# Altium schematic symbol library miscellaneous.SchLib: 26 symbols
Pins are listed as number, name and electrical type; pins without a type are passive.

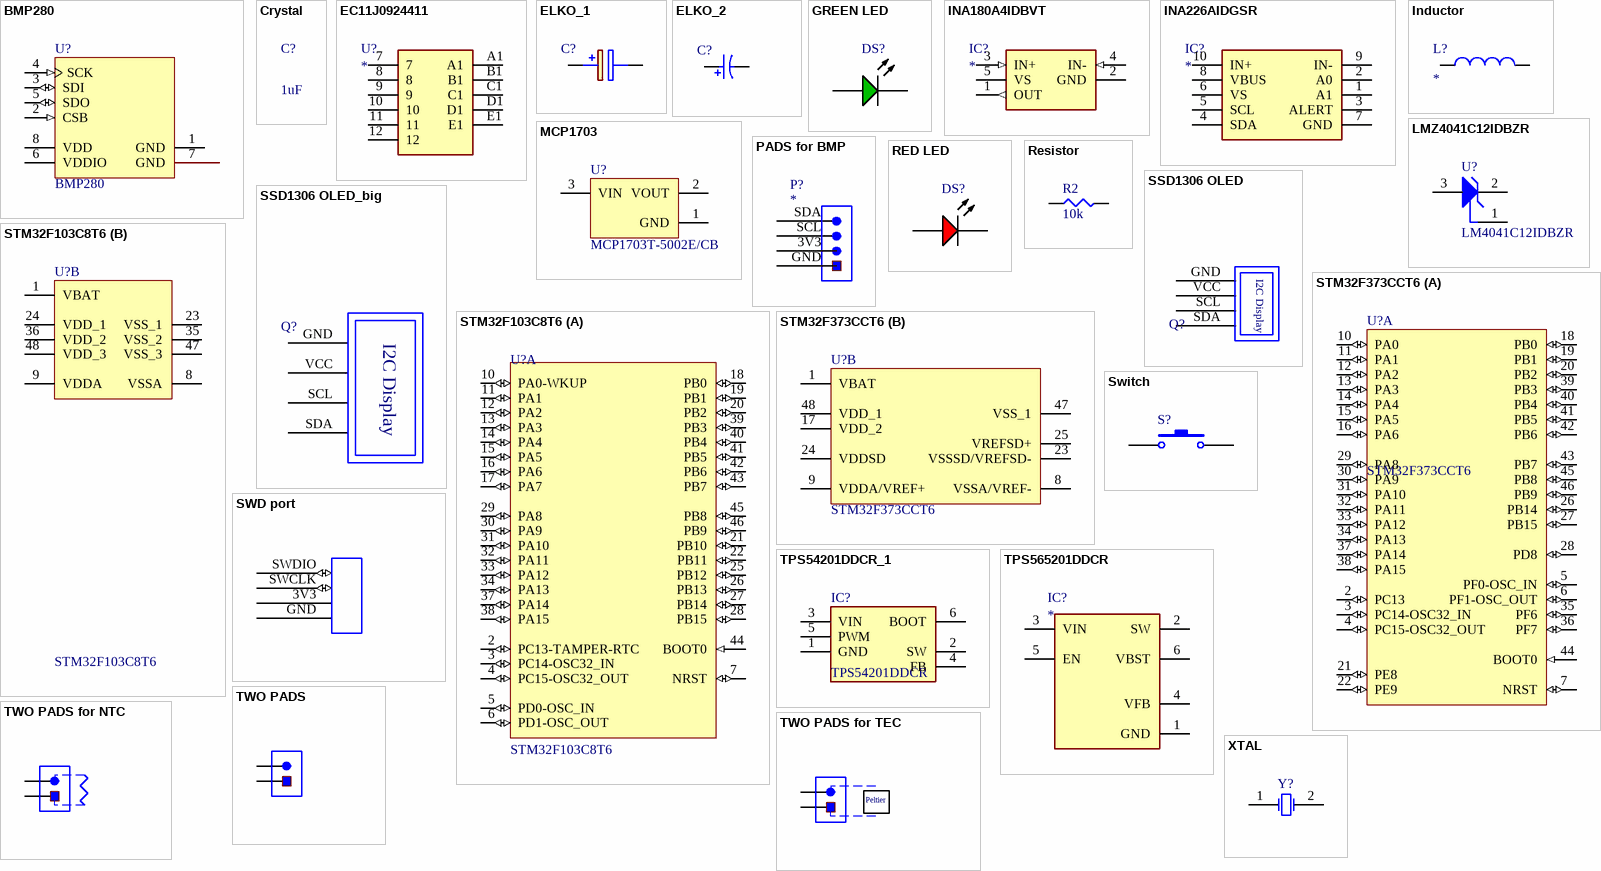
[diagram p0: symbols BMP280 to XTAL]

## BMP280
designator U?
Digital Pressure Sensor, 1.71 to 3.6 V, -40 to 85 degC, 8-Pin LGA, RoHS, Tape and Reel; Manufacturer: Bosch Sensortec; Manufacturer name: Bosch; Manufacturer URL: http://www.bosch-sensortec.com; Datasheet URL: http://datasheet.octopart.com/BMP280-Bosch-datasheet-41546027.pdf; Datasheet Version: Rev. 1.14, 05/2015; Part Number: BMP280; Manufacturer: Bosch; Manufacturer Part Number: BMP280
footprint BOSC-LGA-8_V (LGA, 8-Leads, Body 2.5x2mm, Pitch 0.65mm)
pins: 1 GND (power) "Ground", 2 CSB (in) "Chip select", 3 SDI (io) "Serial data input", 4 SCK (in) "Serial clock input", 5 SDO (io) "Serial data output", 6 VDDIO (power) "Digital interface supply", 7 GND (power) "Ground", 8 VDD (power) "Analog supply"

## Crystal
designator C?, comment 1uF
Value: 1uF
footprint CAPC3216X15L_1206_S (Chip Capacitor, 2-Leads, Body 3,20x1,60mm, IPC High Density)
footprint CAPC3225X15L (Chip Capacitor, 1210, 2-Leads, Body 3,20x2,50mm, IPC High Density)
footprint SMD-0805-C
footprint CAPC450X320X110L60N (Capacitor, Chip; 4.50 mm L X 3.20 mm W X 1.10 mm H body)
footprint CAPC160X80X90L35N (Capacitor, Chip; 1.60 mm L X 0.80 mm W X 0.90 mm H body)
footprint CAPC200X125X110L50N (Capacitor, Chip; 2.00 mm L X 1.25 mm W X 1.10 mm H body)

## EC11J0924411
designator U?
Rotary encoder; Manufacturer_Name: ALPS; Manufacturer_Part_Number: EC11J0924411; Datasheet Link: https://componentsearchengine.com//EC11J0924411.pdf; Height: 24.5mm; Mouser2 Part Number: 688-EC11J0924411; Mouser2 Price/Stock: https://www.mouser.com/Search/Refine.aspx?Keyword=688-EC11J0924411
footprint EC11J0924411
pins: 7, 8, 9, 10, 11, 12, A1, B1, C1, D1, E1

## ELKO_1
designator C?
polarised cap
footprint CAPAE630X610D720L260X70N (Capacitor, Aluminum Electrolytic; 6.30 mm L X 6.30 mm W X 6.10 mm H body)
pins: 1 +, 2 -

## ELKO_2
designator C?
polarised cap
footprint CAPAE630X610D720L260X70N (Capacitor, Aluminum Electrolytic; 6.30 mm L X 6.30 mm W X 6.10 mm H body)
pins: 1, 2

## GREEN LED
designator DS?  (value not drawn)
Green LED; Part Number: *
footprint LEDC160X80X60L30N (LED, Chip; 0603; 1.60 mm L X 0.80 mm W X 0.60 mm H body, green)
pins: A, C

## INA180A4IDBVT
designator IC?
Integrated Circuit; Manufacturer_Name: Texas Instruments; Manufacturer_Part_Number: INA180A4IDBVT; Datasheet Link: http://www.ti.com/lit/gpn/ina180; Height: 1.45mm; Mouser2 Part Number: 595-INA180A4IDBVT; Mouser2 Price/Stock: https://www.mouser.com/Search/Refine.aspx?Keyword=595-INA180A4IDBVT
footprint SOT23-5P95_290X145L45X40N (Small Outline Transistor (SOT23), 0.95 mm pitch; 5 pin, 2.80 mm L X 1.60 mm W X 1.45 mm H body)
pins: 1 OUT (out), 2 GND (power), 3 IN+ (in), 4 IN- (in), 5 VS (power)

## INA226AIDGSR
designator IC?
Integrated Circuit; Manufacturer_Name: Texas Instruments; Manufacturer_Part_Number: INA226AIDGSR; Datasheet Link: https://componentsearchengine.com/Datasheets/1/INA226AIDGSR.pdf; Height: 1.1mm; Mouser2 Part Number: 595-INA226AIDGSR; Mouser2 Price/Stock: https://www.mouser.com/Search/Refine.aspx?Keyword=595-INA226AIDGSR; LCSC Part #: *
footprint SOP10P50_300X490X110L55X22N (Small Outline Pkg (SOP), 0.50 mm pitch; 10 pin, 3.00 mm L X 3.00 mm W X 1.10 mm H body)
pins: 1 A1, 2 A0, 3 ALERT, 4 SDA, 5 SCL, 6 VS, 7 GND, 8 VBUS, 9 IN-, 10 IN+

## Inductor
designator L?
Inductor; Value: *; Resistance: *; Package: *; LCSC Part #: *; Part Number: *
footprint INDC210X125X100L50N (Inductor, Chip; 0805; 2.10 mm L X 1.25 mm W X 1.00 mm H body)
footprint INDM1250X1250X800L290X540N (Inductor, Molded Body; 12.50 mm L X 12.50 mm W X 8.00 mm H body)
footprint INDM730X660X300L160X290N (Inductor, Molded Body; 7.20 mm L X 6.60 mm W X 3.00 mm H body)
footprint INDC320X160X210L60N (Inductor, Chip; 3.20 mm L X 1.60 mm W X 2.10 mm H body)
footprint INDM320X250X240L55X190N (Inductor, Molded Body; 2.10 mm L X 2.50 mm W X 2.40 mm H body)
pins: 1, 2

## LMZ4041C12IDBZR
designator U?, comment LM4041C12IDBZR
Precision Micropower Shunt Voltage Reference, 0.5% accuracy, 1.2 V, 15 ppm / degC, 12 mA, -40 to 85 degC, 3-pin SOT-23 (DBZ), Green (RoHS & no Sb/Br); Manufacturer: Texas Instruments; Rating: Catalog; Temp Coeff(Max)(ppm/ degree C): 100; Min Iz for Regulation(uA): 60; Iout/Iz(Max)(mA): 12; Temp Coeff(Typ)(ppm/ degree C): 15; Initial Accuracy @ 25/deg C(%): 0.5; VO(V): 1.225; ComponentLink3URL: http://www.ti.com/litv/pdf/mpds108a; Code_JEDEC: TO-236; PackageVersion: 4203227/B; SubFamily: Shunt Voltage Reference; ComponentLink4Description: URL Link1; ComponentLink4URL: Samples URL:http://www.ti.com/product/lm4041c12; Mounting Technology: Surface Mount; ComponentLink1URL: http://www.ti.com/; ComponentLink2URL: http://www.ti.com/general/docs/lit/getliterature.tsp?genericPartNumber=LM4041C12&fileType=pdf; Eco-Plan: Green (RoHS & no Sb/Br); PackageReference: DBZ0003A; PackageDescription: 3-Pin Plastic Small Outline, Body 2.92 x 1.3 mm, Pitch 0.95 mm; PartNumber: LM4041C12IDBZR; DatasheetVersion: SLCS146E; ComponentLink2Description: Datasheet; ComponentLink1Description: Manufacturer URL; ComponentLink3Description: Package Specification; LCSC Part #: C133587
footprint SOT-23A-CB3_M
pins: 1 CATHODE, 2 ANODE, 3 NC

## MCP1703
designator U?, comment MCP1703T-5002E/CB
250 mA, 16V, Low Quiescent Current LDO Regulator, 3-Pin SOT-23A, Extended Temperature, Tape and Reel; Manufacturer: Microchip; PackageReference: SOT-23A-CB3; PackageVersion: revBB, Aug-2009; DatasheetVersion: revD, Sep-2009; PackageDescription: 3-Lead Plastic Small Outline Transistor (CB) [SOT-23A]; Part Number: MCP1703; Manufacturer Part Number: MCP1703T-5002E/CB
footprint SOT-23A-CB3_M (SOT346, 3-Leads, Body 2.9x1.5mm, Pitch 0.95mm, Lead Span 2.6mm, IPC Low Density)
pins: 1 GND (power), 2 VOUT (power), 3 VIN (power)

## PADS for BMP
designator P?
Value: 1uF
footprint FOUR PADS
pins: 3V3 3, GND 4, SCL 1, SDA 2

## RED LED
designator DS?  (value not drawn)
Red LED; Part Number: *; LCSC Part #: *; Package: *
footprint LEDC200X125X110L30N (LED, Chip; 2.00 mm L X 1.25 mm W X 1.10 mm H body)
pins: A, C

## Resistor
designator R2, comment 10k
Value: 10k; Part Number: *; LCSC Part #: *; Package: *
footprint SMD-0805-RES
footprint RESC200X125X70L40N (Resistor, Chip; 2.00 mm L X 1.25 mm W X 0.70 mm H body)
footprint RESC160X80X90L30N (Resistor, Chip; 1.60 mm L X 0.80 mm W X 0.90 mm H body)
footprint RESC310X152X65L45N (Resistor, 1206; Chip; 3.10 mm L X 1.525 mm W X 0.65 mm H body)
pins: 1, 2

## SSD1306 OLED
designator Q?  (value not drawn)
I2C display
footprint SSD1306 OLED
pins: GND, SCL, SDA, VCC
text: I2C Display

## SSD1306 OLED_big
designator Q?  (value not drawn)
I2C display
footprint SSD1306 OLED
pins: GND, SCL, SDA, VCC
text: I2C Display

## STM32F103C8T6
designator U?
ARM Cortex-M3 32-bit MCU, 64 KB Flash, 20 KB Internal RAM, 37 I/Os, 48-pin LQFP, -40 to 85 degC, Tray; Manufacturer: STMicroelectronics; Supply Voltage(Vcc) min (V): 2; Internal RAM Size (kB): 20; FLASH Size (Prog) (kB): 64; A/D Converter: 2x12-bit (10 Channel); I/Os (High Current): 37; Operating Frequency(F) (Processor speed) (MHz): 72; Core: ARM Cortex-M3; ComponentLink3Description: Package Specification; Mounting Technology: Surface Mount; PartNumber: STM32F103C8T6; PackageReference: LQFP48; Packing: Tray; ComponentLink3URL: http://www.st.com/st-web-ui/static/active/en/resource/technical/document/datasheet/DM00058181.pdf; DatasheetVersion: Rev. 16; ComponentLink1URL: http://www.st.com/web/en/home.html; PackageVersion: Rev. 6, 06/2013; ComponentLink2URL: http://www.st.com/st-web-ui/static/active/en/resource/technical/document/datasheet/CD00161566.pdf; ComponentLink1Description: Manufacturer URL; ComponentLink2Description: Datasheet; PackageDescription: 48-Pin Low Profile Quad Flat Package, 7 x 7 mm Body, 0.5 mm Pitch; Part Number: STM32F103C8T6; Manufacturer Part Number: STM32F103C8T6
footprint STM-LQFP48_L (QFP, 48-Leads, Body 7x7mm, Pitch 0.5mm, IPC High Density)
part A pins: 2 PC13-TAMPER-RTC (io) "PC13-TAMPER-RTC/PC13/TAMPER-RTC", 3 PC14-OSC32_IN (io) "PC14-OSC32_IN/PC14/OSC32_IN", 4 PC15-OSC32_OUT (io) "PC15-OSC32_OUT/PC15/OSC32_OUT", 5 PD0-OSC_IN (io) "PD0/OSC_IN", 6 PD1-OSC_OUT (io) "PD1/OSC_OUT", 7 NRST (io), 10 PA0-WKUP (io) "PA0-WKUP/PA0/WKUP/USART2_CTS/ADC12_IN0/TIM2_CH1_ETR", 11 PA1 (io) "PA1/USART2_RTS/ADC12_IN1/TIM2_CH2", 12 PA2 (io) "PA2/USART2_TX/ADC12_IN2/TIM2_CH3", 13 PA3 (io) "PA3/USART2_RX/ADC12_IN3/TIM2_CH4", 14 PA4 (io) "PA4/SPI1_NSS/USART2_CK/ADC12_IN4", 15 PA5 (io) "PA5/SPI1_SCK/ADC12_IN5", 16 PA6 (io) "PA6/SPI1_MISO/ADC12_IN6/TIM3_CH1/TIM1_BKIN", 17 PA7 (io) "PA7/SPI1_MOSI/ADC12_IN7/TIM3_CH2/TIM1_CH1N", 18 PB0 (io) "PB0/ADC12_IN8/TIM3_CH3/TIM1_CH2N", 19 PB1 (io) "PB1/ADC12_IN9/TIM3_CH4/TIM1_CH3N", 20 PB2 (io) "PB2/BOOT1", 21 PB10 (io) "PB10/I2C2_SCL/USART3_TX/TIM2_CH3", 22 PB11 (io) "PB11/I2C2_SDA/USART3_RX/TIM2_CH4", 25 PB12 (io) "PB12/SPI2_NSS/I2C2_SMBAl/USART3_CK/TIM1_BKIN", 26 PB13 (io) "PB13/SPI2_SCK/USART3_CTS/TIM1_CH1N", 27 PB14 (io) "PB14/SPI2_MISO/USART3_RTS/TIM1_CH2N", 28 PB15 (io) "PB15/SPI2_MOSI/TIM1_CH3N", 29 PA8 (io) "PA8/USART1_CK/TIM1_CH1/MCO", 30 PA9 (io) "PA9/USART1_TX/TIM1_CH2", 31 PA10 (io) "PA10/USART1_RX/TIM1_CH3", 32 PA11 (io) "PA11/USART1_CTS/CANRX/USBDM/TIM1_CH4", 33 PA12 (io) "PA12/USART1_RTS/CANTX/USBDP/TIM1_ETR", 34 PA13 (io) "PA13/JTMS/SWDIO", 37 PA14 (io) "PA14/JTCK/SWCLK", 38 PA15 (io) "PA15/JTDI/TIM2_CH1_ETR/SPI1_NSS", 39 PB3 (io) "PB3/JTDO/TIM2_CH2/TRACESWO/SPI1_SCK", 40 PB4 (io) "PB4/NJTRST/TIM3_CH1/SPI1_MISO", 41 PB5 (io) "PB5/I2C1_SMBAI/TIM3_CH2/SPI1_MOSI", 42 PB6 (io) "PB6/I2C1_SCL/TIM4_CH1/USART1_TX", 43 PB7 (io) "PB7/I2C1_SDA/TIM4_CH2/USART1_RX", 44 BOOT0 (in), 45 PB8 (io) "PB8/TIM4_CH3/I2C1_SCL/CANRX", 46 PB9 (io) "PB9/TIM4_CH4/I2C1_SDA/CANTX"
part B pins: 1 VBAT (power), 8 VSSA (power), 9 VDDA (power), 23 VSS_1 (power), 24 VDD_1 (power), 35 VSS_2 (power), 36 VDD_2 (power), 47 VSS_3 (power), 48 VDD_3 (power)

## STM32F373CCT6
designator U?
ARM Cortex-M4 32-bit MCU, 256 KB Flash, 32 KB Internal RAM, 36 I/Os, 48-pin LQFP, -40 to 85 degC, Tray; Manufacturer: STMicroelectronics; FLASH Size (Prog) (kB): 256; Internal RAM Size (kB): 32; Operating Frequency(F) (Processor speed) (MHz): 72; I/Os (High Current): 36; Supply Voltage(Vcc) min (V): 2; Mounting Technology: Surface Mount; ComponentLink2Description: Datasheet; PackageReference: LQFP48; Packing: Tray; PackageVersion: Rev. 6, 06/2013; ComponentLink1Description: Manufacturer URL; ComponentLink3Description: Package Specification; ComponentLink2URL: http://www.st.com/st-web-ui/static/active/en/resource/technical/document/datasheet/DM00046749.pdf; PartNumber: STM32F373CCT6; Core: ARM Cortex-M4; ComponentLink1URL: http://www.st.com/web/en/home.html; ComponentLink3URL: http://www.st.com/st-web-ui/static/active/en/resource/technical/document/datasheet/DM00058181.pdf; DatasheetVersion: Rev. 3; PackageDescription: 48-Pin Low Profile Quad Flat Package, 7 x 7 mm Body, 0.5 mm Pitch; LCSC Part #: C89403; Manufacturer Part Number: STM32F373CCT6
footprint STM-LQFP48_L (QFP, 48-Leads, Body 7x7mm, Pitch 0.5mm, IPC High Density)
part A pins: 2 PC13 (io) "PC13/WKUP2_ALARM_OUT_CALIB_OUT_TIMESTAMP,RTC_TAMPER1", 3 PC14-OSC32_IN (io) "PC14-OSC32_IN/OSC32_IN", 4 PC15-OSC32_OUT (io) "PC15-OSC32_OUT/OSC32_OUT", 5 PF0-OSC_IN (io) "PF0-OSC_IN/I2C2_SDA/OSC_IN", 6 PF1-OSC_OUT (io) "PF1-OSC_OUT/I2C2_SCL/OSC_OUT", 7 NRST (io) "Device reset input / internal reset output (active low)", 10 PA0 (io) "PA0/USART2_CTS,TIM2_CH1_ETR,TIM5_CH1_ETR,TIM19_CH1,TSC_G1_IO1,COMP1_OUT/RTC_TAMPER2,WKUP1,ADC_IN0,COMP1_INM", 11 PA1 (io) "PA1/SPI3_SCK/I2S3_CK,USART2_RTS,TIM2_CH2,TIM15_CH1N,TIM5_CH2,TIM19_CH2,TSC_G1_IO2/ADC_IN1,COMP1_INP,RTC_REF_CLK_IN", 12 PA2 (io) "PA2/COMP2_OUT,SPI3_MISO/I2S3_MCK,USART2_TX,TIM2_CH3,TIM15_CH1,TIM5_CH3,TIM19_CH3,TSC_G1_IO3/ADC_IN2,COMP2_INM", 13 PA3 (io) "PA3/SPI3_MOSI,I2S3_SD,USART2_RX,TIM2_CH4,TIM15_CH2,TIM5_CH4,TIM19_CH4,TSC_G1_IO4/ADC_IN3,COMP2_INP", 14 PA4 (io) "PA4/SPI1_NSS/I2S1_WS,SPI3_NSS/I2S3_WS,USART2_CK,TIM3_CH2,TIM12_CH1,TSC_G2_IO1/ADC_IN4,DAC1_OUT1", 15 PA5 (io) "PA5/SPI1_SCK/I2S1_CK,CEC,TIM2_CH1_ETR,TIM14_CH1,TIM12_CH2,TSC_G2_IO2/ADC_IN5,DAC1_OUT2", 16 PA6 (io) "PA6/SPI1_MISO/I2S1_MCK,COMP1_OUT,TIM3_CH1,TIM13_CH1,TIM16_CH1,TSC_G2_IO3/ADC_IN6,DAC2_OUT1", 18 PB0 (io) "PB0/SPI1_MOSI/I2S1_SD,TIM3_CH3,TSC_G3_IO3,TIM3_CH2/ADC_IN8,SDADC1_AIN6P", 19 PB1 (io) "PB1/TIM3_CH4,TSC_G3_IO4/ADC_IN9,SDADC1_AIN5P,SDADC1_AIN6M", 20 PB2 (io) "PB2/SDADC1_AIN4P,SDADC2_AIN6P", 21 PE8 (io) "PE8/SDADC1_AIN8P,SDADC2_AIN8P", 22 PE9 (io) "PE9/SDADC1_AIN7P,SDADC1_AIN8M,SDADC2_AIN7P,SDADC2_AIN8M", 26 PB14 (io) "PB14/SPI2_MISO/I2S2_MCK,USART3_RTS,TIM15_CH1,TIM12_CH1,TSC_G6_IO1/SDADC3_AIN8P", 27 PB15 (io) "PB15/SPI2_MOSI/I2S2_SD,TIM15_CH1N,TIM15_CH2,TIM12_CH2,TSC_G6_IO2/SDADC3_AIN7P,SDADC3_AIN8M,RTC_REFCLKIN", 28 PD8 (io) "PD8/SPI2_SCK/I2S2_CK,USART3_TX,TSC_G6_IO3/SDADC3_AIN6P", 29 PA8 (io) "PA8/SPI2_SCK/I2S2_CK,I2C2_SMBA,USART1_CK,TIM4_ETR,TIM5_CH1_ETR,MCO", 30 PA9 (io) "PA9/SPI2_MISO/I2S2_MCK,I2C2_SCL,USART1_TX,TIM2_CH3,TIM15_BKIN,TIM13_CH1,TSC_G4_IO1", 31 PA10 (io) "PA10/SPI2_MOSI/I2S2_SD,I2C2_SDA,USART1_RX,TIM2_CH4,TIM17_BKIN,TIM14_CH1,TSC_G4_IO2", 32 PA11 (io) "PA11/SPI2_NSS/I2S2_WS,SPI1_NSS/I2S1_WS,USART1_CTS,CAN_RX,TIM4_CH1,USB_DM,TIM5_CH2,COMP1_OUT", 33 PA12 (io) "PA12/SPI1_SCK/I2S1_CK,USART1_RTS,CAN_TX,USB_DP,TIM16_CH1,TIM4_CH2,TIM5_CH3,COMP2_OUT", 34 PA13 (io) "PA13/SPI1_MISO/I2S1_MCK,USART3_CTS,IR_OUT,TIM16_CH1N,TIM4_CH3,TIM5_CH4,TSC_G4_IO3,SWDIO-JTMS", 35 PF6 (io) "PF6/SPI1_MOSI,I2S1_SD,USART3_RTS,TIM4_CH4,I2C2_SCL", 36 PF7 (io) "PF7/I2C2_SDA,USART2_CK", 37 PA14 (io) "PA14/I2C1_SDA,TIM12_CH1,TSC_G4_IO4,SWCLK-JTCK", 38 PA15 (io) "PA15/SPI1_NSS/I2S1_WS,SPI3_NSS/I2S3_WS,I2C1_SCL,TIM2_CH1_ETR,TIM12_CH2,TSC_SYNC,JTDI", 39 PB3 (io) "PB3/SPI1_SCK/I2S1_CK,SPI3_SCK/I2S3_CK,USART2_TX,TIM2_CH2,TIM3_ETR,TIM4_ETR,TIM13_CH1,TSC_G5_IO1,JTDO-TRACESWO", 40 PB4 (io) "PB4/SPI1_MISO/I2S1_MCK,SPI3_MISO/I2S3_MCK,USART2_RX,TIM16_CH1,TIM3_CH1,TIM17_BKIN,TIM15_CH1N,TSC_G5_IO2,NJTRST", 41 PB5 (io) "PB5/SPI1_MOSI/I2S1_SD,SPI3_MOSI/I2S3_SD,I2C1_SMBAI,USART2_CK,TIM16_BKIN,TIM3_CH2,TIM17_CH1,TIM19_ETR", 42 PB6 (io) "PB6/I2C1_SCL,USART1_TX,TIM16_CH1N,TIM3_CH3,TIM4_CH1,TIM19_CH1,TIM15_CH1,TSC_G5_IO3", 43 PB7 (io) "PB7/I2C1_SDA,USART1_RX,TIM17_CH1N,TIM3_CH4,TIM4_CH2,TIM19_CH2,TIM15_CH2,TSC_G5_IO4", 44 BOOT0 (in) "Boot memory selection", 45 PB8 (io) "PB8/SPI2_SCK/I2S2_CK,I2C1_SCL,USART3_TX,CAN_RX,CEC,TIM16_CH1,TIM4_CH3,TIM19_CH3,COMP1_OUT,TSC_SYNC", 46 PB9 (io) "PB9/SPI2_NSS/I2S2_WS,I2C1_SDA,USART3_RX,CAN_TX,IR_OUT,TIM17_CH1,TIM4_CH4,TIM19_CH4,COMP2_OUT"
part B pins: 1 VBAT (power) "Backup power supply", 8 VSSA/VREF- (power) "Analog ground", 9 VDDA/VREF+ (power) "Analog power supply / Reference voltage for ADC, COMP,DAC", 17 VDD_2 (power) "Digital power supply", 23 VSSSD/VREFSD- (power) "SDADC1, SDADC2, SDADC3 ground / External reference voltage for SDADC1, SDADC2, SDADC3 (negative input)", 24 VDDSD (power) "SDADC1, SDADC2, SDADC3 power supply", 25 VREFSD+ (power) "External reference voltage for SDADC1, SDADC2, SDADC3(positive input)", 47 VSS_1 (power) "Ground", 48 VDD_1 (power) "Digital power supply"

## SWD port
designator P?, comment SWD  (value not drawn)
footprint SWD (SWD PORT)
pins: 3V3 (power), GND (power), SWCLK (io), SWDIO (io)

## Switch
designator S?
Switch; Published: 24-Mar-1999; LatestRevisionDate: 17-Jul-2002; LatestRevisionNote: Re-released for DXP Platform.; PackageReference: SPST-2; Publisher: Altium Limited; PackageDescription: Switch; 2 Leads
footprint Tactile switch
pins: 1, 2

## TPS54201DDCR_1
designator IC?, comment TPS54201DDCR
Integrated Circuit; Manufacturer_Name: Texas Instruments; Datasheet Link: http://www.ti.com/lit/gpn/TPS54201; Height: 1.1mm; Mouser2 Part Number: 595-TPS54201DDCR; Mouser2 Price/Stock: https://www.mouser.com/Search/Refine.aspx?Keyword=595-TPS54201DDCR; Manufacturer_Part_Number: TPS54201DDCR; Part Number: TPS54201; Parameter 1: *
footprint SOT95P280X110-6N
pins: 1 GND, 2 SW, 3 VIN, 4 FB, 5 PWM, 6 BOOT

## TPS565201DDCR
designator IC?
Integrated Circuit; Manufacturer_Name: Texas Instruments; Manufacturer_Part_Number: TPS565201DDCR; Datasheet Link: http://www.ti.com/lit/gpn/tps565201; Height: 1.1mm
footprint SOT95P280X110-6N
pins: 1 GND, 2 SW, 3 VIN, 4 VFB, 5 EN, 6 VBST

## TWO PADS
designator P?
Value: 1uF
footprint TWO PADS - small (3.00 mm x 2.00 mm, 1.00 mm space)
footprint TWO PADS - medium (4.00 mm x 2.50 mm, 0.50 mm space)
footprint TWO PADS - big (5.00 mm x 3.00 mm, 0.5 mm space)
pins: 1, 2

## TWO PADS for NTC
designator P?
Value: 1uF
footprint TWO PADS
pins: 1, 2

## TWO PADS for TEC
designator P?
footprint TWO PADS
pins: 1, 2
text: Peltier

## XTAL
designator Y?
Crystal Oscillator; Published: 8-Jun-2000; LatestRevisionDate: 17-Jul-2002; LatestRevisionNote: Re-released for DXP Platform.; PackageReference: R38; Publisher: Altium Limited; PackageDescription: Crystal, Thru-Hole; 2 Leads; Body 3.1 x 8.2 mm (Dia.xH); Part Number: *
footprint 5032
footprint XTAL540X240X50L170N (Varistor, Chip; 5.40 mm L X 2.40 mm W X 0.50 mm H body)
pins: 1 OSC1, 2 OSC2